# EAGLE library part SHIELDING-COVER-XIAO_RP2040_PRD (library XIAO_RP2040_PRD_v1.0)
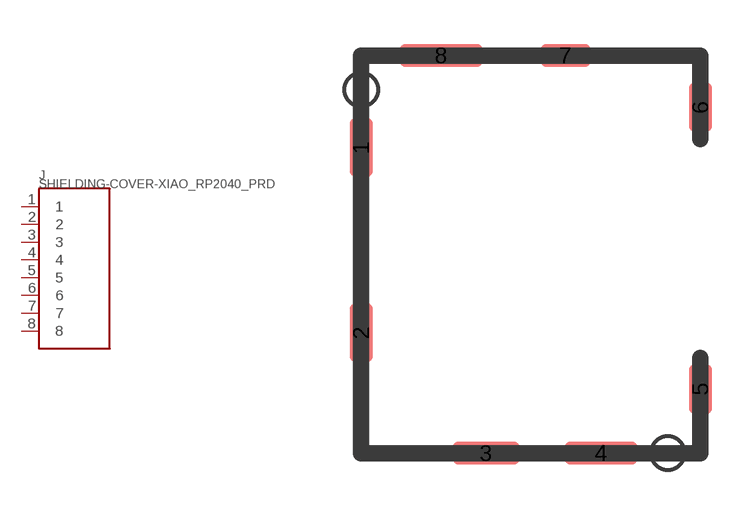
[diagram p0: symbol with the pads of SHIELDING-COVER_XIAO_RP2040_PRD; footprint SHIELDING-COVER_XIAO_RP2040_PRD]

Designator prefix J

## SHIELDING-COVER-XIAO_RP2040_PRD  [SHIELDING-COVER_XIAO_RP2040_PRD]
1  1
2  2
3  3
4  4
5  5
6  6
7  7
8  8

## Footprint SHIELDING-COVER_XIAO_RP2040_PRD (pad centres in mm)
smd 0.7 x 1.778: 1 -4.953,3.556; 2 -4.953,-2.032
smd 2.032 x 0.7: 3 -1.18,-5.673
smd 2.2 x 0.7: 4 2.29,-5.668
smd 0.7 x 1.5: 5 5.283,-3.737; 6 5.283,4.772
smd 1.5 x 0.7: 7 1.216,6.332
smd 2.5 x 0.7: 8 -2.54,6.332
hole 1 at -4.953,5.3
hole 1 at 4.3,-5.672